# Altium footprint library Connector_PinHeader_1.00mm.PcbLib: 278 footprints (part 16 of 18)
Each footprint in its own frame and in the unit in brackets; x right, y up, seen from the top. Pads: shape width x height; smd on the part's side, far side on the other; paste and mask are expansions set on the pad; w line width, h text height; cw(c..) or ccw(c..) is an arc to the next point about the centre after c.
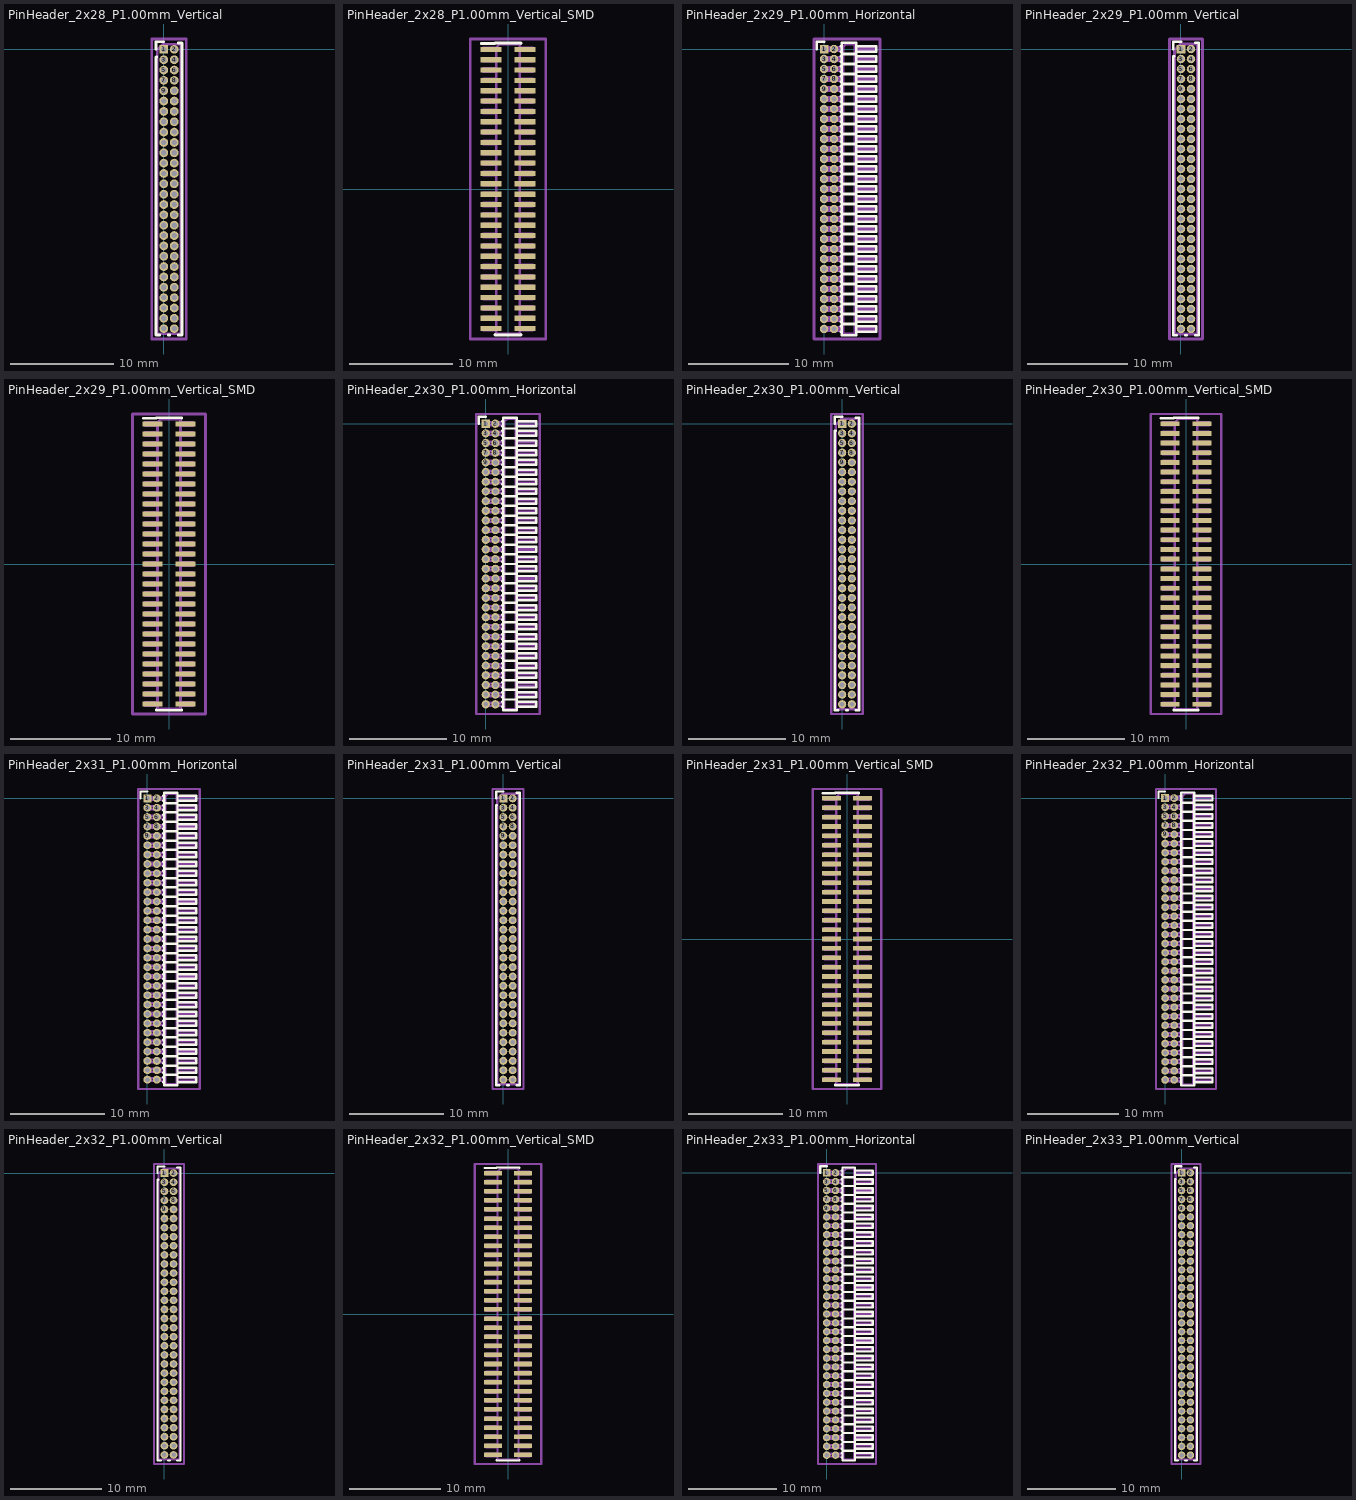
[diagram p15: the footprints below, top view; thin cyan lines are the x and y axes]

## PinHeader_2x28_P1.00mm_Vertical [mm]
pads (56):
  rect 0.85x0.85 hole 0.5: 1(0,0)
  round 0.85 hole 0.5: 2(1,0) 3(0,-1) 4(1,-1) 5(0,-2) 6(1,-2) 7(0,-3) 8(1,-3) 9(0,-4) 10(1,-4) 11(0,-5) 12(1,-5) 13(0,-6) 14(1,-6) 15(0,-7) 16(1,-7) 17(0,-8) 18(1,-8) 19(0,-9) 20(1,-9) 21(0,-10) 22(1,-10) 23(0,-11) 24(1,-11) 25(0,-12) 26(1,-12) 27(0,-13) 28(1,-13) 29(0,-14) 30(1,-14) 31(0,-15) 32(1,-15) 33(0,-16) 34(1,-16) 35(0,-17) 36(1,-17) 37(0,-18) 38(1,-18) 39(0,-19) 40(1,-19) 41(0,-20) 42(1,-20) 43(0,-21) 44(1,-21) 45(0,-22) 46(1,-22) 47(0,-23) 48(1,-23) 49(0,-24) 50(1,-24) 51(0,-25) 52(1,-25) 53(0,-26) 54(1,-26) 55(0,-27) 56(1,-27)
F.SilkS:
  lines w0.254: -0.76,0 -0.76,0.735 0,0.735 ; -0.686,-0.735 -0.76,-0.735 -0.76,-27.61 -0.41,-27.61 ; 0.41,-27.61 0.59,-27.61 ; 1.41,-27.61 1.76,-27.61 1.76,0.61 1.41,0.61
Top Assembly:
  lines w0.254: -0.65,-27.5 1.65,-27.5 1.65,0.5 -0.075,0.5 -0.65,-0.075 -0.65,-27.5
  text "'.Designator'" at 1.34,-17.547 h1
Top Courtyard:
  lines w0.254: -1.15,-28 2.15,-28 2.15,1 -1.15,1 -1.15,-28
Top Designator:
  text ".Designator" at -7.118,-14.008 h1.52

## PinHeader_2x28_P1.00mm_Vertical_SMD [mm]
pads (56):
  rect 2x0.5 smd: 1(-1.65,13.5) 2(1.65,13.5) 3(-1.65,12.5) 4(1.65,12.5) 5(-1.65,11.5) 6(1.65,11.5) 7(-1.65,10.5) 8(1.65,10.5) 9(-1.65,9.5) 10(1.65,9.5) 11(-1.65,8.5) 12(1.65,8.5) 13(-1.65,7.5) 14(1.65,7.5) 15(-1.65,6.5) 16(1.65,6.5) 17(-1.65,5.5) 18(1.65,5.5) 19(-1.65,4.5) 20(1.65,4.5) 21(-1.65,3.5) 22(1.65,3.5) 23(-1.65,2.5) 24(1.65,2.5) 25(-1.65,1.5) 26(1.65,1.5) 27(-1.65,0.5) 28(1.65,0.5) 29(-1.65,-0.5) 30(1.65,-0.5) 31(-1.65,-1.5) 32(1.65,-1.5) 33(-1.65,-2.5) 34(1.65,-2.5) 35(-1.65,-3.5) 36(1.65,-3.5) 37(-1.65,-4.5) 38(1.65,-4.5) 39(-1.65,-5.5) 40(1.65,-5.5) 41(-1.65,-6.5) 42(1.65,-6.5) 43(-1.65,-7.5) 44(1.65,-7.5) 45(-1.65,-8.5) 46(1.65,-8.5) 47(-1.65,-9.5) 48(1.65,-9.5) 49(-1.65,-10.5) 50(1.65,-10.5) 51(-1.65,-11.5) 52(1.65,-11.5) 53(-1.65,-12.5) 54(1.65,-12.5) 55(-1.65,-13.5) 56(1.65,-13.5)
F.SilkS:
  lines w0.254: -2.59,14.06 -1.26,14.06 -1.26,14.11 1.26,14.11 1.26,14.06 ; -1.26,-14.06 -1.26,-14.11 1.26,-14.11 1.26,-14.06
Top Assembly:
  drawing of 173 lines, arcs and shapes, not listed
  text "'.Designator'" at 0.84,-4.047 h1
Top Courtyard:
  lines w0.254: -3.65,-14.5 3.65,-14.5 3.65,14.5 -3.65,14.5 -3.65,-14.5
Top Designator:
  text ".Designator" at -7.618,-0.508 h1.52

## PinHeader_2x29_P1.00mm_Horizontal [mm]
pads (58):
  rect 0.85x0.85 hole 0.5: 1(0,0)
  round 0.85 hole 0.5: 2(1,0) 3(0,-1) 4(1,-1) 5(0,-2) 6(1,-2) 7(0,-3) 8(1,-3) 9(0,-4) 10(1,-4) 11(0,-5) 12(1,-5) 13(0,-6) 14(1,-6) 15(0,-7) 16(1,-7) 17(0,-8) 18(1,-8) 19(0,-9) 20(1,-9) 21(0,-10) 22(1,-10) 23(0,-11) 24(1,-11) 25(0,-12) 26(1,-12) 27(0,-13) 28(1,-13) 29(0,-14) 30(1,-14) 31(0,-15) 32(1,-15) 33(0,-16) 34(1,-16) 35(0,-17) 36(1,-17) 37(0,-18) 38(1,-18) 39(0,-19) 40(1,-19) 41(0,-20) 42(1,-20) 43(0,-21) 44(1,-21) 45(0,-22) 46(1,-22) 47(0,-23) 48(1,-23) 49(0,-24) 50(1,-24) 51(0,-25) 52(1,-25) 53(0,-26) 54(1,-26) 55(0,-27) 56(1,-27) 57(0,-28) 58(1,-28)
F.SilkS:
  drawing of 180 lines, arcs and shapes, not listed
Top Assembly:
  drawing of 179 lines, arcs and shapes, not listed
  text "'.Designator'" at 3.105,-16.914 h0.72
Top Courtyard:
  lines w0.254: -1,-29 5.6,-29 5.6,1 -1,1 -1,-29
Top Designator:
  text ".Designator" at -5.318,-14.508 h1.52

## PinHeader_2x29_P1.00mm_Vertical [mm]
pads (58):
  rect 0.85x0.85 hole 0.5: 1(0,0)
  round 0.85 hole 0.5: 2(1,0) 3(0,-1) 4(1,-1) 5(0,-2) 6(1,-2) 7(0,-3) 8(1,-3) 9(0,-4) 10(1,-4) 11(0,-5) 12(1,-5) 13(0,-6) 14(1,-6) 15(0,-7) 16(1,-7) 17(0,-8) 18(1,-8) 19(0,-9) 20(1,-9) 21(0,-10) 22(1,-10) 23(0,-11) 24(1,-11) 25(0,-12) 26(1,-12) 27(0,-13) 28(1,-13) 29(0,-14) 30(1,-14) 31(0,-15) 32(1,-15) 33(0,-16) 34(1,-16) 35(0,-17) 36(1,-17) 37(0,-18) 38(1,-18) 39(0,-19) 40(1,-19) 41(0,-20) 42(1,-20) 43(0,-21) 44(1,-21) 45(0,-22) 46(1,-22) 47(0,-23) 48(1,-23) 49(0,-24) 50(1,-24) 51(0,-25) 52(1,-25) 53(0,-26) 54(1,-26) 55(0,-27) 56(1,-27) 57(0,-28) 58(1,-28)
F.SilkS:
  lines w0.254: -0.76,0 -0.76,0.735 0,0.735 ; -0.686,-0.735 -0.76,-0.735 -0.76,-28.61 -0.41,-28.61 ; 0.41,-28.61 0.59,-28.61 ; 1.41,-28.61 1.76,-28.61 1.76,0.61 1.41,0.61
Top Assembly:
  lines w0.254: -0.65,-28.5 1.65,-28.5 1.65,0.5 -0.075,0.5 -0.65,-0.075 -0.65,-28.5
  text "'.Designator'" at 1.34,-18.047 h1
Top Courtyard:
  lines w0.254: -1.15,-29 2.15,-29 2.15,1 -1.15,1 -1.15,-29
Top Designator:
  text ".Designator" at -7.118,-14.508 h1.52

## PinHeader_2x29_P1.00mm_Vertical_SMD [mm]
pads (58):
  rect 2x0.5 smd: 1(-1.65,14) 2(1.65,14) 3(-1.65,13) 4(1.65,13) 5(-1.65,12) 6(1.65,12) 7(-1.65,11) 8(1.65,11) 9(-1.65,10) 10(1.65,10) 11(-1.65,9) 12(1.65,9) 13(-1.65,8) 14(1.65,8) 15(-1.65,7) 16(1.65,7) 17(-1.65,6) 18(1.65,6) 19(-1.65,5) 20(1.65,5) 21(-1.65,4) 22(1.65,4) 23(-1.65,3) 24(1.65,3) 25(-1.65,2) 26(1.65,2) 27(-1.65,1) 28(1.65,1) 29(-1.65,0) 30(1.65,0) 31(-1.65,-1) 32(1.65,-1) 33(-1.65,-2) 34(1.65,-2) 35(-1.65,-3) 36(1.65,-3) 37(-1.65,-4) 38(1.65,-4) 39(-1.65,-5) 40(1.65,-5) 41(-1.65,-6) 42(1.65,-6) 43(-1.65,-7) 44(1.65,-7) 45(-1.65,-8) 46(1.65,-8) 47(-1.65,-9) 48(1.65,-9) 49(-1.65,-10) 50(1.65,-10) 51(-1.65,-11) 52(1.65,-11) 53(-1.65,-12) 54(1.65,-12) 55(-1.65,-13) 56(1.65,-13) 57(-1.65,-14) 58(1.65,-14)
F.SilkS:
  lines w0.254: -2.59,14.56 -1.26,14.56 -1.26,14.61 1.26,14.61 1.26,14.56 ; -1.26,-14.56 -1.26,-14.61 1.26,-14.61 1.26,-14.56
Top Assembly:
  drawing of 179 lines, arcs and shapes, not listed
  text "'.Designator'" at 0.84,-4.047 h1
Top Courtyard:
  lines w0.254: -3.65,-15 3.65,-15 3.65,15 -3.65,15 -3.65,-15
Top Designator:
  text ".Designator" at -7.618,-0.508 h1.52

## PinHeader_2x30_P1.00mm_Horizontal [mm]
pads (60):
  rect 0.85x0.85 hole 0.5: 1(0,0)
  round 0.85 hole 0.5: 2(1,0) 3(0,-1) 4(1,-1) 5(0,-2) 6(1,-2) 7(0,-3) 8(1,-3) 9(0,-4) 10(1,-4) 11(0,-5) 12(1,-5) 13(0,-6) 14(1,-6) 15(0,-7) 16(1,-7) 17(0,-8) 18(1,-8) 19(0,-9) 20(1,-9) 21(0,-10) 22(1,-10) 23(0,-11) 24(1,-11) 25(0,-12) 26(1,-12) 27(0,-13) 28(1,-13) 29(0,-14) 30(1,-14) 31(0,-15) 32(1,-15) 33(0,-16) 34(1,-16) 35(0,-17) 36(1,-17) 37(0,-18) 38(1,-18) 39(0,-19) 40(1,-19) 41(0,-20) 42(1,-20) 43(0,-21) 44(1,-21) 45(0,-22) 46(1,-22) 47(0,-23) 48(1,-23) 49(0,-24) 50(1,-24) 51(0,-25) 52(1,-25) 53(0,-26) 54(1,-26) 55(0,-27) 56(1,-27) 57(0,-28) 58(1,-28) 59(0,-29) 60(1,-29)
F.SilkS:
  drawing of 186 lines, arcs and shapes, not listed
Top Assembly:
  drawing of 185 lines, arcs and shapes, not listed
  text "'.Designator'" at 3.105,-17.414 h0.72
Top Courtyard:
  lines w0.254: -1,-30 5.6,-30 5.6,1 -1,1 -1,-30
Top Designator:
  text ".Designator" at -5.318,-15.008 h1.52

## PinHeader_2x30_P1.00mm_Vertical [mm]
pads (60):
  rect 0.85x0.85 hole 0.5: 1(0,0)
  round 0.85 hole 0.5: 2(1,0) 3(0,-1) 4(1,-1) 5(0,-2) 6(1,-2) 7(0,-3) 8(1,-3) 9(0,-4) 10(1,-4) 11(0,-5) 12(1,-5) 13(0,-6) 14(1,-6) 15(0,-7) 16(1,-7) 17(0,-8) 18(1,-8) 19(0,-9) 20(1,-9) 21(0,-10) 22(1,-10) 23(0,-11) 24(1,-11) 25(0,-12) 26(1,-12) 27(0,-13) 28(1,-13) 29(0,-14) 30(1,-14) 31(0,-15) 32(1,-15) 33(0,-16) 34(1,-16) 35(0,-17) 36(1,-17) 37(0,-18) 38(1,-18) 39(0,-19) 40(1,-19) 41(0,-20) 42(1,-20) 43(0,-21) 44(1,-21) 45(0,-22) 46(1,-22) 47(0,-23) 48(1,-23) 49(0,-24) 50(1,-24) 51(0,-25) 52(1,-25) 53(0,-26) 54(1,-26) 55(0,-27) 56(1,-27) 57(0,-28) 58(1,-28) 59(0,-29) 60(1,-29)
F.SilkS:
  lines w0.254: -0.76,0 -0.76,0.735 0,0.735 ; -0.686,-0.735 -0.76,-0.735 -0.76,-29.61 -0.41,-29.61 ; 0.41,-29.61 0.59,-29.61 ; 1.41,-29.61 1.76,-29.61 1.76,0.61 1.41,0.61
Top Assembly:
  lines w0.254: -0.65,-29.5 1.65,-29.5 1.65,0.5 -0.075,0.5 -0.65,-0.075 -0.65,-29.5
  text "'.Designator'" at 1.34,-18.547 h1
Top Courtyard:
  lines w0.254: -1.15,-30 2.15,-30 2.15,1 -1.15,1 -1.15,-30
Top Designator:
  text ".Designator" at -7.118,-15.008 h1.52

## PinHeader_2x30_P1.00mm_Vertical_SMD [mm]
pads (60):
  rect 2x0.5 smd: 1(-1.65,14.5) 2(1.65,14.5) 3(-1.65,13.5) 4(1.65,13.5) 5(-1.65,12.5) 6(1.65,12.5) 7(-1.65,11.5) 8(1.65,11.5) 9(-1.65,10.5) 10(1.65,10.5) 11(-1.65,9.5) 12(1.65,9.5) 13(-1.65,8.5) 14(1.65,8.5) 15(-1.65,7.5) 16(1.65,7.5) 17(-1.65,6.5) 18(1.65,6.5) 19(-1.65,5.5) 20(1.65,5.5) 21(-1.65,4.5) 22(1.65,4.5) 23(-1.65,3.5) 24(1.65,3.5) 25(-1.65,2.5) 26(1.65,2.5) 27(-1.65,1.5) 28(1.65,1.5) 29(-1.65,0.5) 30(1.65,0.5) 31(-1.65,-0.5) 32(1.65,-0.5) 33(-1.65,-1.5) 34(1.65,-1.5) 35(-1.65,-2.5) 36(1.65,-2.5) 37(-1.65,-3.5) 38(1.65,-3.5) 39(-1.65,-4.5) 40(1.65,-4.5) 41(-1.65,-5.5) 42(1.65,-5.5) 43(-1.65,-6.5) 44(1.65,-6.5) 45(-1.65,-7.5) 46(1.65,-7.5) 47(-1.65,-8.5) 48(1.65,-8.5) 49(-1.65,-9.5) 50(1.65,-9.5) 51(-1.65,-10.5) 52(1.65,-10.5) 53(-1.65,-11.5) 54(1.65,-11.5) 55(-1.65,-12.5) 56(1.65,-12.5) 57(-1.65,-13.5) 58(1.65,-13.5) 59(-1.65,-14.5) 60(1.65,-14.5)
F.SilkS:
  lines w0.254: -2.59,15.06 -1.26,15.06 -1.26,15.11 1.26,15.11 1.26,15.06 ; -1.26,-15.06 -1.26,-15.11 1.26,-15.11 1.26,-15.06
Top Assembly:
  drawing of 185 lines, arcs and shapes, not listed
  text "'.Designator'" at 0.84,-4.047 h1
Top Courtyard:
  lines w0.254: -3.65,-15.5 3.65,-15.5 3.65,15.5 -3.65,15.5 -3.65,-15.5
Top Designator:
  text ".Designator" at -7.618,-0.508 h1.52

## PinHeader_2x31_P1.00mm_Horizontal [mm]
pads (62):
  rect 0.85x0.85 hole 0.5: 1(0,0)
  round 0.85 hole 0.5: 2(1,0) 3(0,-1) 4(1,-1) 5(0,-2) 6(1,-2) 7(0,-3) 8(1,-3) 9(0,-4) 10(1,-4) 11(0,-5) 12(1,-5) 13(0,-6) 14(1,-6) 15(0,-7) 16(1,-7) 17(0,-8) 18(1,-8) 19(0,-9) 20(1,-9) 21(0,-10) 22(1,-10) 23(0,-11) 24(1,-11) 25(0,-12) 26(1,-12) 27(0,-13) 28(1,-13) 29(0,-14) 30(1,-14) 31(0,-15) 32(1,-15) 33(0,-16) 34(1,-16) 35(0,-17) 36(1,-17) 37(0,-18) 38(1,-18) 39(0,-19) 40(1,-19) 41(0,-20) 42(1,-20) 43(0,-21) 44(1,-21) 45(0,-22) 46(1,-22) 47(0,-23) 48(1,-23) 49(0,-24) 50(1,-24) 51(0,-25) 52(1,-25) 53(0,-26) 54(1,-26) 55(0,-27) 56(1,-27) 57(0,-28) 58(1,-28) 59(0,-29) 60(1,-29) 61(0,-30) 62(1,-30)
F.SilkS:
  drawing of 192 lines, arcs and shapes, not listed
Top Assembly:
  drawing of 191 lines, arcs and shapes, not listed
  text "'.Designator'" at 3.105,-17.914 h0.72
Top Courtyard:
  lines w0.254: -1,-31 5.6,-31 5.6,1 -1,1 -1,-31
Top Designator:
  text ".Designator" at -5.318,-15.508 h1.52

## PinHeader_2x31_P1.00mm_Vertical [mm]
pads (62):
  rect 0.85x0.85 hole 0.5: 1(0,0)
  round 0.85 hole 0.5: 2(1,0) 3(0,-1) 4(1,-1) 5(0,-2) 6(1,-2) 7(0,-3) 8(1,-3) 9(0,-4) 10(1,-4) 11(0,-5) 12(1,-5) 13(0,-6) 14(1,-6) 15(0,-7) 16(1,-7) 17(0,-8) 18(1,-8) 19(0,-9) 20(1,-9) 21(0,-10) 22(1,-10) 23(0,-11) 24(1,-11) 25(0,-12) 26(1,-12) 27(0,-13) 28(1,-13) 29(0,-14) 30(1,-14) 31(0,-15) 32(1,-15) 33(0,-16) 34(1,-16) 35(0,-17) 36(1,-17) 37(0,-18) 38(1,-18) 39(0,-19) 40(1,-19) 41(0,-20) 42(1,-20) 43(0,-21) 44(1,-21) 45(0,-22) 46(1,-22) 47(0,-23) 48(1,-23) 49(0,-24) 50(1,-24) 51(0,-25) 52(1,-25) 53(0,-26) 54(1,-26) 55(0,-27) 56(1,-27) 57(0,-28) 58(1,-28) 59(0,-29) 60(1,-29) 61(0,-30) 62(1,-30)
F.SilkS:
  lines w0.254: -0.76,0 -0.76,0.735 0,0.735 ; -0.686,-0.735 -0.76,-0.735 -0.76,-30.61 -0.41,-30.61 ; 0.41,-30.61 0.59,-30.61 ; 1.41,-30.61 1.76,-30.61 1.76,0.61 1.41,0.61
Top Assembly:
  lines w0.254: -0.65,-30.5 1.65,-30.5 1.65,0.5 -0.075,0.5 -0.65,-0.075 -0.65,-30.5
  text "'.Designator'" at 1.34,-19.047 h1
Top Courtyard:
  lines w0.254: -1.15,-31 2.15,-31 2.15,1 -1.15,1 -1.15,-31
Top Designator:
  text ".Designator" at -7.118,-15.508 h1.52

## PinHeader_2x31_P1.00mm_Vertical_SMD [mm]
pads (62):
  rect 2x0.5 smd: 1(-1.65,15) 2(1.65,15) 3(-1.65,14) 4(1.65,14) 5(-1.65,13) 6(1.65,13) 7(-1.65,12) 8(1.65,12) 9(-1.65,11) 10(1.65,11) 11(-1.65,10) 12(1.65,10) 13(-1.65,9) 14(1.65,9) 15(-1.65,8) 16(1.65,8) 17(-1.65,7) 18(1.65,7) 19(-1.65,6) 20(1.65,6) 21(-1.65,5) 22(1.65,5) 23(-1.65,4) 24(1.65,4) 25(-1.65,3) 26(1.65,3) 27(-1.65,2) 28(1.65,2) 29(-1.65,1) 30(1.65,1) 31(-1.65,0) 32(1.65,0) 33(-1.65,-1) 34(1.65,-1) 35(-1.65,-2) 36(1.65,-2) 37(-1.65,-3) 38(1.65,-3) 39(-1.65,-4) 40(1.65,-4) 41(-1.65,-5) 42(1.65,-5) 43(-1.65,-6) 44(1.65,-6) 45(-1.65,-7) 46(1.65,-7) 47(-1.65,-8) 48(1.65,-8) 49(-1.65,-9) 50(1.65,-9) 51(-1.65,-10) 52(1.65,-10) 53(-1.65,-11) 54(1.65,-11) 55(-1.65,-12) 56(1.65,-12) 57(-1.65,-13) 58(1.65,-13) 59(-1.65,-14) 60(1.65,-14) 61(-1.65,-15) 62(1.65,-15)
F.SilkS:
  lines w0.254: -2.59,15.56 -1.26,15.56 -1.26,15.61 1.26,15.61 1.26,15.56 ; -1.26,-15.56 -1.26,-15.61 1.26,-15.61 1.26,-15.56
Top Assembly:
  drawing of 191 lines, arcs and shapes, not listed
  text "'.Designator'" at 0.84,-4.047 h1
Top Courtyard:
  lines w0.254: -3.65,-16 3.65,-16 3.65,16 -3.65,16 -3.65,-16
Top Designator:
  text ".Designator" at -7.618,-0.508 h1.52

## PinHeader_2x32_P1.00mm_Horizontal [mm]
pads (64):
  rect 0.85x0.85 hole 0.5: 1(0,0)
  round 0.85 hole 0.5: 2(1,0) 3(0,-1) 4(1,-1) 5(0,-2) 6(1,-2) 7(0,-3) 8(1,-3) 9(0,-4) 10(1,-4) 11(0,-5) 12(1,-5) 13(0,-6) 14(1,-6) 15(0,-7) 16(1,-7) 17(0,-8) 18(1,-8) 19(0,-9) 20(1,-9) 21(0,-10) 22(1,-10) 23(0,-11) 24(1,-11) 25(0,-12) 26(1,-12) 27(0,-13) 28(1,-13) 29(0,-14) 30(1,-14) 31(0,-15) 32(1,-15) 33(0,-16) 34(1,-16) 35(0,-17) 36(1,-17) 37(0,-18) 38(1,-18) 39(0,-19) 40(1,-19) 41(0,-20) 42(1,-20) 43(0,-21) 44(1,-21) 45(0,-22) 46(1,-22) 47(0,-23) 48(1,-23) 49(0,-24) 50(1,-24) 51(0,-25) 52(1,-25) 53(0,-26) 54(1,-26) 55(0,-27) 56(1,-27) 57(0,-28) 58(1,-28) 59(0,-29) 60(1,-29) 61(0,-30) 62(1,-30) 63(0,-31) 64(1,-31)
F.SilkS:
  drawing of 198 lines, arcs and shapes, not listed
Top Assembly:
  drawing of 197 lines, arcs and shapes, not listed
  text "'.Designator'" at 3.105,-18.414 h0.72
Top Courtyard:
  lines w0.254: -1,-32 5.6,-32 5.6,1 -1,1 -1,-32
Top Designator:
  text ".Designator" at -5.318,-16.008 h1.52

## PinHeader_2x32_P1.00mm_Vertical [mm]
pads (64):
  rect 0.85x0.85 hole 0.5: 1(0,0)
  round 0.85 hole 0.5: 2(1,0) 3(0,-1) 4(1,-1) 5(0,-2) 6(1,-2) 7(0,-3) 8(1,-3) 9(0,-4) 10(1,-4) 11(0,-5) 12(1,-5) 13(0,-6) 14(1,-6) 15(0,-7) 16(1,-7) 17(0,-8) 18(1,-8) 19(0,-9) 20(1,-9) 21(0,-10) 22(1,-10) 23(0,-11) 24(1,-11) 25(0,-12) 26(1,-12) 27(0,-13) 28(1,-13) 29(0,-14) 30(1,-14) 31(0,-15) 32(1,-15) 33(0,-16) 34(1,-16) 35(0,-17) 36(1,-17) 37(0,-18) 38(1,-18) 39(0,-19) 40(1,-19) 41(0,-20) 42(1,-20) 43(0,-21) 44(1,-21) 45(0,-22) 46(1,-22) 47(0,-23) 48(1,-23) 49(0,-24) 50(1,-24) 51(0,-25) 52(1,-25) 53(0,-26) 54(1,-26) 55(0,-27) 56(1,-27) 57(0,-28) 58(1,-28) 59(0,-29) 60(1,-29) 61(0,-30) 62(1,-30) 63(0,-31) 64(1,-31)
F.SilkS:
  lines w0.254: -0.76,0 -0.76,0.735 0,0.735 ; -0.686,-0.735 -0.76,-0.735 -0.76,-31.61 -0.41,-31.61 ; 0.41,-31.61 0.59,-31.61 ; 1.41,-31.61 1.76,-31.61 1.76,0.61 1.41,0.61
Top Assembly:
  lines w0.254: -0.65,-31.5 1.65,-31.5 1.65,0.5 -0.075,0.5 -0.65,-0.075 -0.65,-31.5
  text "'.Designator'" at 1.34,-19.547 h1
Top Courtyard:
  lines w0.254: -1.15,-32 2.15,-32 2.15,1 -1.15,1 -1.15,-32
Top Designator:
  text ".Designator" at -7.118,-16.008 h1.52

## PinHeader_2x32_P1.00mm_Vertical_SMD [mm]
pads (64):
  rect 2x0.5 smd: 1(-1.65,15.5) 2(1.65,15.5) 3(-1.65,14.5) 4(1.65,14.5) 5(-1.65,13.5) 6(1.65,13.5) 7(-1.65,12.5) 8(1.65,12.5) 9(-1.65,11.5) 10(1.65,11.5) 11(-1.65,10.5) 12(1.65,10.5) 13(-1.65,9.5) 14(1.65,9.5) 15(-1.65,8.5) 16(1.65,8.5) 17(-1.65,7.5) 18(1.65,7.5) 19(-1.65,6.5) 20(1.65,6.5) 21(-1.65,5.5) 22(1.65,5.5) 23(-1.65,4.5) 24(1.65,4.5) 25(-1.65,3.5) 26(1.65,3.5) 27(-1.65,2.5) 28(1.65,2.5) 29(-1.65,1.5) 30(1.65,1.5) 31(-1.65,0.5) 32(1.65,0.5) 33(-1.65,-0.5) 34(1.65,-0.5) 35(-1.65,-1.5) 36(1.65,-1.5) 37(-1.65,-2.5) 38(1.65,-2.5) 39(-1.65,-3.5) 40(1.65,-3.5) 41(-1.65,-4.5) 42(1.65,-4.5) 43(-1.65,-5.5) 44(1.65,-5.5) 45(-1.65,-6.5) 46(1.65,-6.5) 47(-1.65,-7.5) 48(1.65,-7.5) 49(-1.65,-8.5) 50(1.65,-8.5) 51(-1.65,-9.5) 52(1.65,-9.5) 53(-1.65,-10.5) 54(1.65,-10.5) 55(-1.65,-11.5) 56(1.65,-11.5) 57(-1.65,-12.5) 58(1.65,-12.5) 59(-1.65,-13.5) 60(1.65,-13.5) 61(-1.65,-14.5) 62(1.65,-14.5) 63(-1.65,-15.5) 64(1.65,-15.5)
F.SilkS:
  lines w0.254: -2.59,16.06 -1.26,16.06 -1.26,16.11 1.26,16.11 1.26,16.06 ; -1.26,-16.06 -1.26,-16.11 1.26,-16.11 1.26,-16.06
Top Assembly:
  drawing of 197 lines, arcs and shapes, not listed
  text "'.Designator'" at 0.84,-4.047 h1
Top Courtyard:
  lines w0.254: -3.65,-16.5 3.65,-16.5 3.65,16.5 -3.65,16.5 -3.65,-16.5
Top Designator:
  text ".Designator" at -7.618,-0.508 h1.52

## PinHeader_2x33_P1.00mm_Horizontal [mm]
pads (66):
  rect 0.85x0.85 hole 0.5: 1(0,0)
  round 0.85 hole 0.5: 2(1,0) 3(0,-1) 4(1,-1) 5(0,-2) 6(1,-2) 7(0,-3) 8(1,-3) 9(0,-4) 10(1,-4) 11(0,-5) 12(1,-5) 13(0,-6) 14(1,-6) 15(0,-7) 16(1,-7) 17(0,-8) 18(1,-8) 19(0,-9) 20(1,-9) 21(0,-10) 22(1,-10) 23(0,-11) 24(1,-11) 25(0,-12) 26(1,-12) 27(0,-13) 28(1,-13) 29(0,-14) 30(1,-14) 31(0,-15) 32(1,-15) 33(0,-16) 34(1,-16) 35(0,-17) 36(1,-17) 37(0,-18) 38(1,-18) 39(0,-19) 40(1,-19) 41(0,-20) 42(1,-20) 43(0,-21) 44(1,-21) 45(0,-22) 46(1,-22) 47(0,-23) 48(1,-23) 49(0,-24) 50(1,-24) 51(0,-25) 52(1,-25) 53(0,-26) 54(1,-26) 55(0,-27) 56(1,-27) 57(0,-28) 58(1,-28) 59(0,-29) 60(1,-29) 61(0,-30) 62(1,-30) 63(0,-31) 64(1,-31) 65(0,-32) 66(1,-32)
F.SilkS:
  drawing of 204 lines, arcs and shapes, not listed
Top Assembly:
  drawing of 203 lines, arcs and shapes, not listed
  text "'.Designator'" at 3.105,-18.914 h0.72
Top Courtyard:
  lines w0.254: -1,-33 5.6,-33 5.6,1 -1,1 -1,-33
Top Designator:
  text ".Designator" at -5.318,-16.508 h1.52

## PinHeader_2x33_P1.00mm_Vertical [mm]
pads (66):
  rect 0.85x0.85 hole 0.5: 1(0,0)
  round 0.85 hole 0.5: 2(1,0) 3(0,-1) 4(1,-1) 5(0,-2) 6(1,-2) 7(0,-3) 8(1,-3) 9(0,-4) 10(1,-4) 11(0,-5) 12(1,-5) 13(0,-6) 14(1,-6) 15(0,-7) 16(1,-7) 17(0,-8) 18(1,-8) 19(0,-9) 20(1,-9) 21(0,-10) 22(1,-10) 23(0,-11) 24(1,-11) 25(0,-12) 26(1,-12) 27(0,-13) 28(1,-13) 29(0,-14) 30(1,-14) 31(0,-15) 32(1,-15) 33(0,-16) 34(1,-16) 35(0,-17) 36(1,-17) 37(0,-18) 38(1,-18) 39(0,-19) 40(1,-19) 41(0,-20) 42(1,-20) 43(0,-21) 44(1,-21) 45(0,-22) 46(1,-22) 47(0,-23) 48(1,-23) 49(0,-24) 50(1,-24) 51(0,-25) 52(1,-25) 53(0,-26) 54(1,-26) 55(0,-27) 56(1,-27) 57(0,-28) 58(1,-28) 59(0,-29) 60(1,-29) 61(0,-30) 62(1,-30) 63(0,-31) 64(1,-31) 65(0,-32) 66(1,-32)
F.SilkS:
  lines w0.254: -0.76,0 -0.76,0.735 0,0.735 ; -0.686,-0.735 -0.76,-0.735 -0.76,-32.61 -0.41,-32.61 ; 0.41,-32.61 0.59,-32.61 ; 1.41,-32.61 1.76,-32.61 1.76,0.61 1.41,0.61
Top Assembly:
  lines w0.254: -0.65,-32.5 1.65,-32.5 1.65,0.5 -0.075,0.5 -0.65,-0.075 -0.65,-32.5
  text "'.Designator'" at 1.34,-20.047 h1
Top Courtyard:
  lines w0.254: -1.15,-33 2.15,-33 2.15,1 -1.15,1 -1.15,-33
Top Designator:
  text ".Designator" at -7.118,-16.508 h1.52